# EAGLE library part AS5600 (library SparkFun-DigitalIC)
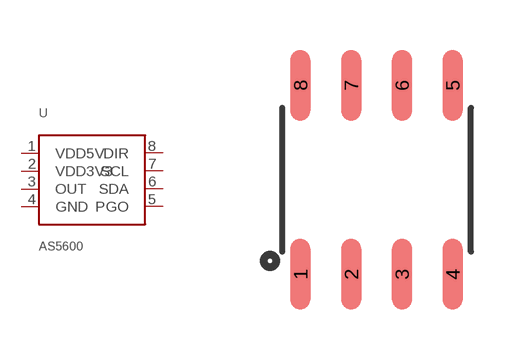
[diagram p141: symbol with the pads of SOIC8-S; footprint SOIC8-S]

Designator prefix -

## AS5600  [SOIC8-S]
1  VDD5V
2  VDD3V3
3  OUT
4  GND
5  PGO
6  SDA
7  SCL
8  DIR

## Footprint SOIC8-S (pad centres in mm)
SOIC 8-Lead
smd 0.5 x 1.77: 1 -1.905,-2.365; 2 -0.635,-2.365; 3 0.635,-2.365; 4 1.905,-2.365; 5 1.905,2.365; 6 0.635,2.365; 7 -0.635,2.365; 8 -1.905,2.365